# EAGLE library part 74LVX14MTCX (library Fairchild_By_element14_Batch_1)
Low Voltage Hex Inverter with Schmitt Trigger Input
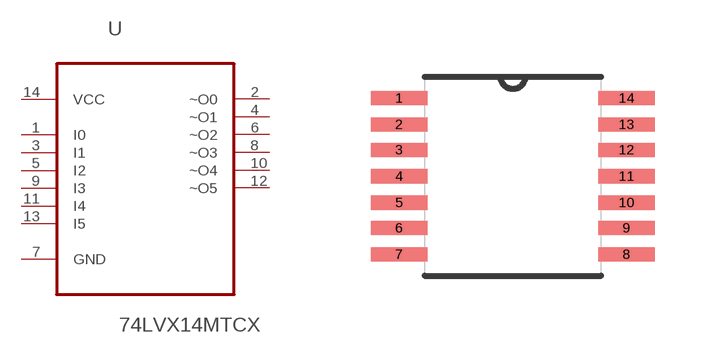
[diagram p112: symbol with the pads of SOP65P640X120-14N; footprint SOP65P640X120-14N]

Designator prefix U

## 74LVX14MTCX (MPN: 74LVX14MTCX; OC_FARNELL: 1607745; OC_NEWARK: 78K6343; PACKAGE: TSSOP-14; SUPPLIER: FAIRCHILD)  [SOP65P640X120-14N]
1  I0  in
2  ~O0  out
3  I1  in
4  ~O1  out
5  I2  in
6  ~O2  out
7  GND  pas
8  ~O3  out
9  I3  in
10  ~O4  out
11  I4  in
12  ~O5  out
13  I5  in
14  VCC  pwr

## Footprint SOP65P640X120-14N (pad centres in mm)
smd 1.422 x 0.356: 1 -2.845,1.956; 2 -2.845,1.295; 3 -2.845,0.66; 4 -2.845,0; 5 -2.845,-0.66; 6 -2.845,-1.295; 7 -2.845,-1.956; 8 2.845,-1.956; 9 2.845,-1.295; 10 2.845,-0.66; 11 2.845,0; 12 2.845,0.66; 13 2.845,1.295; 14 2.845,1.956